# EAGLE library part THAT4320 (library that-corp)
Analog Engine IC Pre-trimmed Low-voltage Low-power
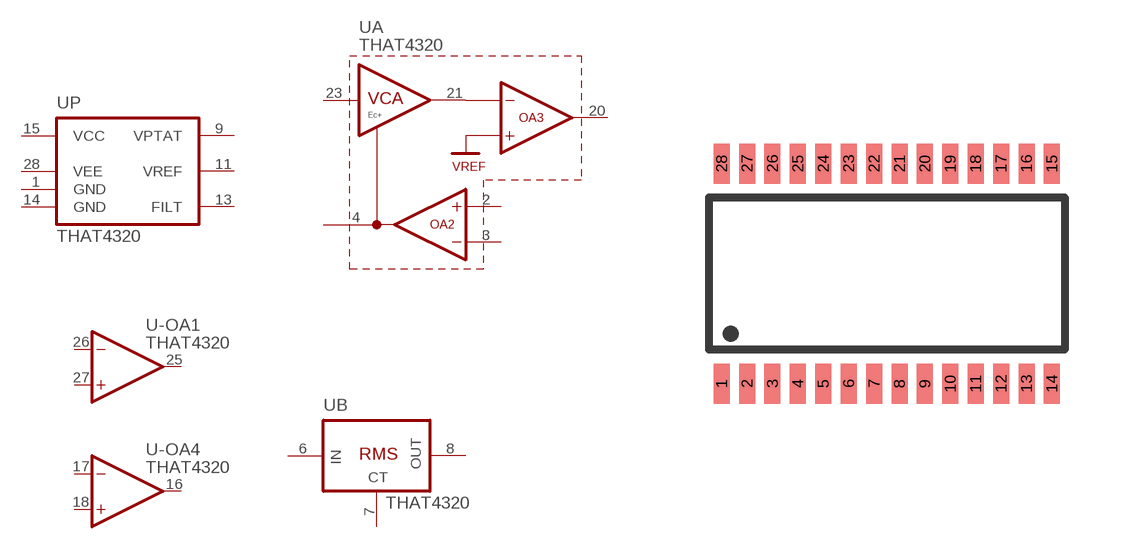
[diagram p6: symbol with the pads of QSOP28; footprint QSOP28]

Designator prefix U; gates P=THAT4320_PWR -OA1=OPAMP_NV -OA4=OPAMP_NV B=RMS A=THAT4320

## THAT4320  [QSOP28]
1  P:GND  pwr
2  A:OA2_+IN  in
3  A:OA2_-IN  in
4  A:OA2_OUT  out
6  B:RMS_IN  in
7  B:CT  pas
8  B:RMS_OUT  out
9  P:VPTAT
11  P:VREF  pas
13  P:FILT  pas
14  P:GND  pwr
15  P:VCC  pwr
16  -OA4:OUT  out
17  -OA4:-IN  in
18  -OA4:+IN  in
20  A:OA3_OUT  out
21  A:VCA_OUT
23  A:VCA_IN  in
25  -OA1:OUT  out
26  -OA1:-IN  in
27  -OA1:+IN  in
28  P:VEE  pas

## Footprint QSOP28 (pad centres in mm)
QSOP-28
smd 0.4 x 1: 1 -4.128,-2.75; 2 -3.493,-2.75; 3 -2.858,-2.75; 4 -2.223,-2.75; 5 -1.587,-2.75; 6 -0.952,-2.75; 7 -0.317,-2.75; 8 0.318,-2.75; 9 0.953,-2.75; 10 1.588,-2.75; 11 2.223,-2.75; 12 2.858,-2.75; 13 3.493,-2.75; 14 4.128,-2.75; 15 4.128,2.75; 16 3.493,2.75; 17 2.858,2.75; 18 2.223,2.75; 19 1.588,2.75; 20 0.953,2.75; 21 0.318,2.75; 22 -0.317,2.75; 23 -0.952,2.75; 24 -1.587,2.75; 25 -2.223,2.75; 26 -2.858,2.75; 27 -3.493,2.75; 28 -4.128,2.75